# EAGLE library part PIC18F25K22 (library MCE_Microcontroladores)
PIC18F25K22
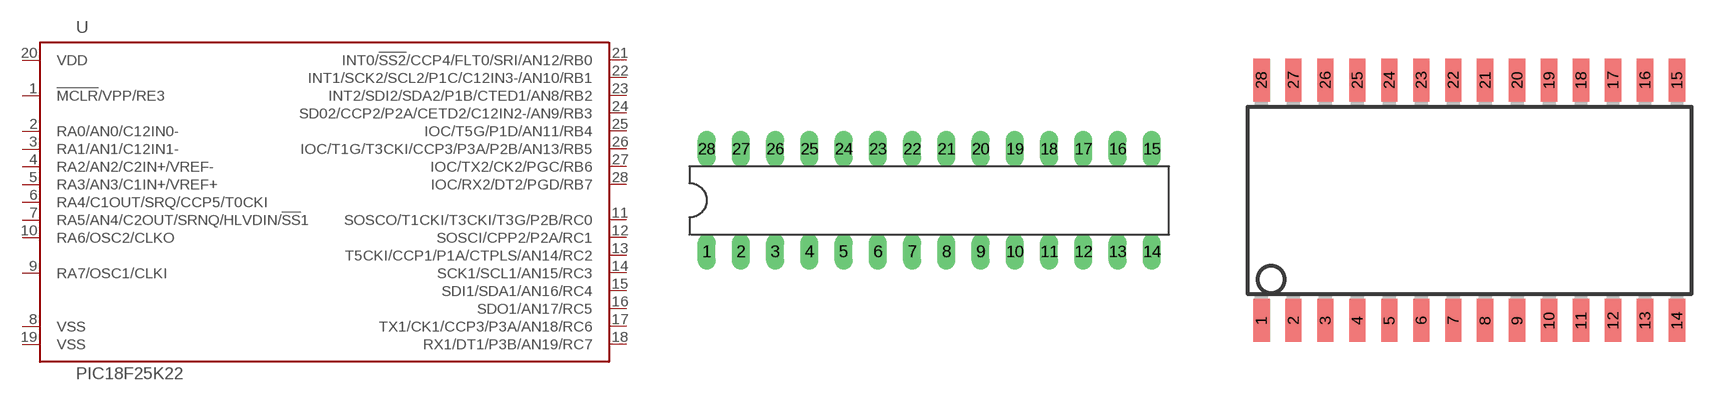
[diagram p6: symbol with the pads of DIL28; footprints DIL28, SO28W]

Designator prefix U

## PIC18F25K22DIP  [DIL28]
1  !MCLR!/VPP/RE3  in
2  RA0/AN0/C12IN0-
3  RA1/AN1/C12IN1-
4  RA2/AN2/C2IN+/VREF-
5  RA3/AN3/C1IN+/VREF+
6  RA4/C1OUT/SRQ/CCP5/T0CKI
7  RA5/AN4/C2OUT/SRNQ/HLVDIN/!SS!1
8  VSS  pwr
9  RA7/OSC1/CLKI  in
10  RA6/OSC2/CLKO  out
11  SOSCO/T1CKI/T3CKI/T3G/P2B/RC0
12  SOSCI/CPP2/P2A/RC1
13  T5CKI/CCP1/P1A/CTPLS/AN14/RC2
14  SCK1/SCL1/AN15/RC3
15  SDI1/SDA1/AN16/RC4
16  SDO1/AN17/RC5
17  TX1/CK1/CCP3/P3A/AN18/RC6
18  RX1/DT1/P3B/AN19/RC7
19  VSS  pwr
20  VDD  pwr
21  INT0/!SS2!/CCP4/FLT0/SRI/AN12/RB0
22  INT1/SCK2/SCL2/P1C/C12IN3-/AN10/RB1
23  INT2/SDI2/SDA2/P1B/CTED1/AN8/RB2
24  SD02/CCP2/P2A/CETD2/C12IN2-/AN9/RB3
25  IOC/T5G/P1D/AN11/RB4
26  IOC/T1G/T3CKI/CCP3/P3A/P2B/AN13/RB5
27  IOC/TX2/CK2/PGC/RB6
28  IOC/RX2/DT2/PGD/RB7

## PIC18F25K22SO28W  [SO28W]
Pads as for DIL28

## PIC18F25K22SSOP28  [SSOP28]
Pads as for DIL28

## Footprint DIL28 (pad centres in mm)
Dual In Line package type P
drill 0.813 long: 1 -16.51,-3.81; 2 -13.97,-3.81; 3 -11.43,-3.81; 4 -8.89,-3.81; 5 -6.35,-3.81; 6 -3.81,-3.81; 7 -1.27,-3.81; 8 1.27,-3.81; 9 3.81,-3.81; 10 6.35,-3.81; 11 8.89,-3.81; 12 11.43,-3.81; 13 13.97,-3.81; 14 16.51,-3.81; 15 16.51,3.81; 16 13.97,3.81; 17 11.43,3.81; 18 8.89,3.81; 19 6.35,3.81; 20 3.81,3.81; 21 1.27,3.81; 22 -1.27,3.81; 23 -3.81,3.81; 24 -6.35,3.81; 25 -8.89,3.81; 26 -11.43,3.81; 27 -13.97,3.81; 28 -16.51,3.81

## Footprint SO28W (pad centres in mm)
28-Lead Plastic Small Outline (SO) Wide, 300 mil Body (SOIC) Source: http://ww1.microchip.com/downloads/en/devicedoc/39632c.pdf
smd 0.65 x 1.7: 1 -7.62,-4.78; 2 -6.35,-4.78; 3 -5.08,-4.78; 4 -3.81,-4.78; 5 -2.54,-4.78; 6 -1.27,-4.78; 7 0,-4.78; 8 1.27,-4.78; 9 2.54,-4.78; 10 3.81,-4.78; 11 5.08,-4.78; 12 6.35,-4.78; 13 7.62,-4.78; 14 8.89,-4.78; 15 8.89,4.78; 16 7.62,4.78; 17 6.35,4.78; 18 5.08,4.78; 19 3.81,4.78; 20 2.54,4.78; 21 1.27,4.78; 22 0,4.78; 23 -1.27,4.78; 24 -2.54,4.78; 25 -3.81,4.78; 26 -5.08,4.78; 27 -6.35,4.78; 28 -7.62,4.78

## Footprint SSOP28 (pad centres in mm)
SSOP-28
smd 0.4 x 1.5: 1 -4.225,-3.625; 2 -3.575,-3.625; 3 -2.925,-3.625; 4 -2.275,-3.625; 5 -1.625,-3.625; 6 -0.975,-3.625; 7 -0.325,-3.625; 8 0.325,-3.625; 9 0.975,-3.625; 10 1.625,-3.625; 11 2.275,-3.625; 12 2.925,-3.625; 13 3.575,-3.625; 14 4.225,-3.625; 15 4.225,3.625; 16 3.575,3.625; 17 2.925,3.625; 18 2.275,3.625; 19 1.625,3.625; 20 0.975,3.625; 21 0.325,3.625; 22 -0.325,3.625; 23 -0.975,3.625; 24 -1.625,3.625; 25 -2.275,3.625; 26 -2.925,3.625; 27 -3.575,3.625; 28 -4.225,3.625